# Altium integrated library Electromechanics.IntLib: 4 symbols
Pins are listed as number, name and electrical type; pins without a type are passive.

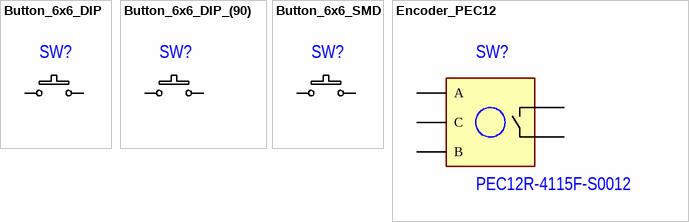
[diagram p0: symbols Button_6x6_DIP to Encoder_PEC12]

## Button_6x6_DIP
designator SW?
Manufacturer: TE Connectivity; PartNumber: FSM2JSMAATR
footprint Button_6x6
pins: 1, 2

## Button_6x6_DIP_(90)
designator SW?
Manufacturer: TE Connectivity; PartNumber: FSM2JSMAATR
footprint Button_6x6_(90)
pins: 1, 2

## Button_6x6_SMD
designator SW?
Manufacturer: TE Connectivity; PartNumber: FSM2JSMAATR
footprint Button_6x6 SMD
pins: 1, 2

## Encoder_PEC12
designator SW?, comment PEC12R-4115F-S0012
Manufacturer: Bourns; PartNumber: PEC12R-4115F-S0012
footprint PEC-12
pins: 1 A, 2 C, 3 B, 4, 5